# Altium footprint library RELE_CHICO.PcbLib: 1 footprints
Each footprint in its own frame and in the unit in brackets; x right, y up, seen from the top. Pads: shape width x height; smd on the part's side, far side on the other; paste and mask are expansions set on the pad; w line width, h text height; cw(c..) or ccw(c..) is an arc to the next point about the centre after c.
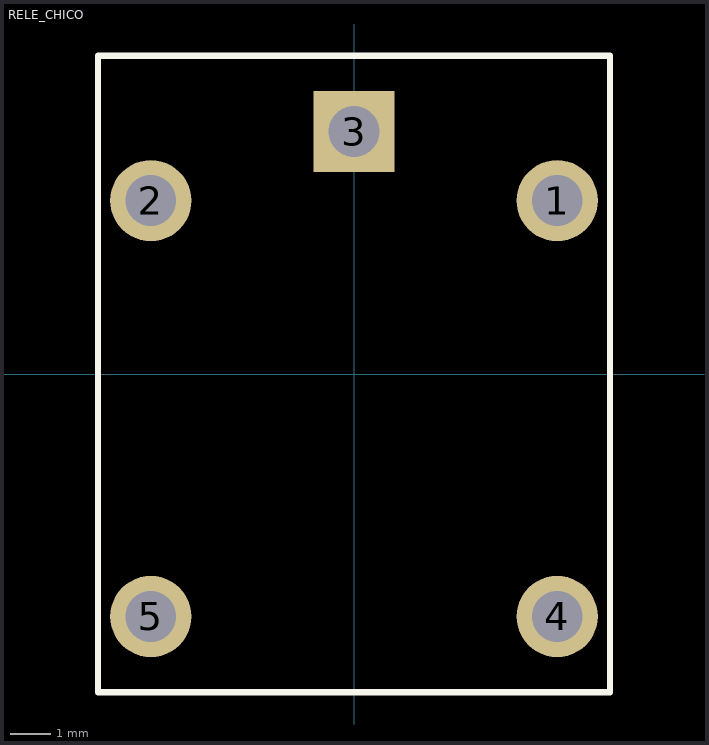
[diagram p0: the footprint, top view; thin cyan lines are the x and y axes]

## RELE_CHICO [mm]
pads (5):
  round 2 hole 1.25: 1(5,4.268) 2(-5,4.268) 4(5,-5.967) 5(-5,-5.967)
  rect 2x2 hole 1.25: 3(0,5.968)
Top Overlay:
  lines w0.152: -6.3,-7.83 -6.3,7.83 6.3,7.83 6.3,-7.83 -6.3,-7.83